# Altium schematic symbol library HLK-V20原理图封装（AD9格式）.SchLib: 1 symbol
Pins are listed as number, name and electrical type; pins without a type are passive.

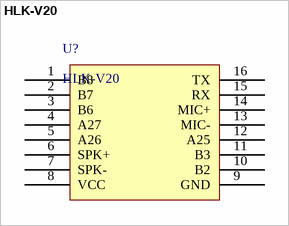
[diagram p0: symbol HLK-V20]

## HLK-V20
designator U?
HLK-V20语音模块
footprint HLK-V20 (Footprint not found)
pins: 1 B8, 2 B7, 3 B6, 4 A27, 5 A26, 6 SPK+, 7 SPK-, 8 VCC, 9 GND, 10 B2, 11 B3, 12 A25, 13 MIC-, 14 MIC+, 15 RX, 16 TX